# Altium footprint library add2.PcbLib: 2 footprints
Each footprint in its own frame and in the unit in brackets; x right, y up, seen from the top. Pads: shape width x height; smd on the part's side, far side on the other; paste and mask are expansions set on the pad; w line width, h text height; cw(c..) or ccw(c..) is an arc to the next point about the centre after c.
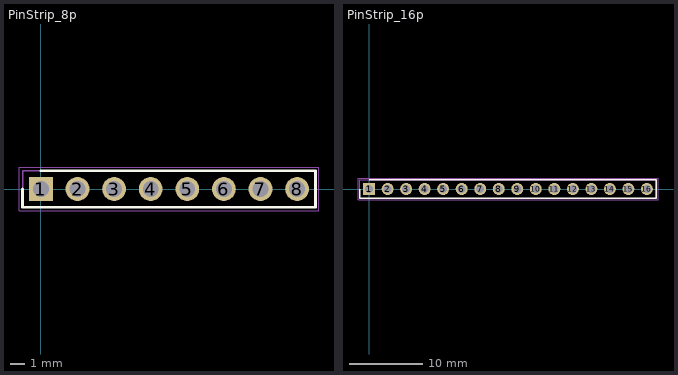
[diagram p0: the footprints below, top view; thin cyan lines are the x and y axes]

## PinStrip_8p [mm]
pads (8):
  rect 1.65x1.65 hole 1.1: 1(0,0)
  round 1.65 hole 1.1: 2(2.54,0) 3(5.08,0) 4(7.62,0) 5(10.16,0) 6(12.7,0) 7(15.24,0) 8(17.78,0)
Top Overlay:
  lines w0.2: -1.27,0 -1.27,-1.27 19.05,-1.27 19.05,1.27 0,1.27
Mechanical 13:
  lines w0.1: -1.27,-1.27 19.05,-1.27 19.05,1.27 -1.27,1.27 -1.27,-1.27
Mechanical 15:
  lines w0.05: -1.52,-1.52 19.3,-1.52 19.3,1.52 -1.52,1.52 -1.52,-1.52
3D body "61300811121.stp": height 8.54, standoff -3, extent -1.27,-1.27 19.05,1.27

## PinStrip_16p [mm]
pads (16):
  rect 1.65x1.65 hole 1.1: 1(0,0)
  round 1.65 hole 1.1: 2(2.54,0) 3(5.08,0) 4(7.62,0) 5(10.16,0) 6(12.7,0) 7(15.24,0) 8(17.78,0) 9(20.32,0) 10(22.86,0) 11(25.4,0) 12(27.94,0) 13(30.48,0) 14(33.02,0) 15(35.56,0) 16(38.1,0)
Top Overlay:
  lines w0.2: -1.27,0 -1.27,-1.25 39.37,-1.25 39.37,1.25 0,1.25
Mechanical 13:
  lines w0.1: -1.27,-1.25 -1.27,1.25 39.37,1.25 39.37,-1.25 -1.27,-1.25
Mechanical 15:
  lines w0.05: -1.52,-1.5 -1.52,1.5 39.62,1.5 39.62,-1.5 -1.52,-1.5
3D body "PH1-16-UA.stp": height 8.47, standoff -3.05, extent -1.27,-1.25 39.37,1.25